# Altium schematic symbol library ADCMP601-SC70_6P.SchLib: 1 symbol
Pins are listed as number, name and electrical type; pins without a type are passive.

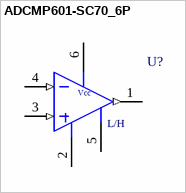
[diagram p0: symbol ADCMP601-SC70_6P]

## ADCMP601-SC70_6P
designator U?
pins: 1 OUT (out), 2 V- (power), 3 IN+ (in), 4 IN- (in), 5 L/H, 6 V+ (power)
text: Vcc